# Altium schematic symbol library Phototransistor(Optocoupler).SchLib: 1 symbol
Pins are listed as number, name and electrical type; pins without a type are passive.

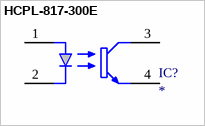
[diagram p0: symbol HCPL-817-300E]

## HCPL-817-300E
designator IC?
OPTOISOLATOR 5KV TRANSISTOR 4SMD; Manufacturer: Broadcom Avago; Manufacturer Part Number: HCPL-817-300E; Number of Channels: 1; Forward Current: 50mA; Forward Voltage: 1.4V; Collector Emitter Voltage (VCEO): 35V; Max Output Voltage: 70V; Max Power Dissipation: 200mW; Rise Time: 18000ns; Reverse Breakdown Voltage: 6V; Current Transfer Ratio: 600%; Collector Emitter Saturation Voltage: 200mV; Input Current: 20mA; Approvals: UL,CSA,VDE; Supplier 1: Digi-Key; RoHS: Yes; Category: Optocouplers; Stock 1: 19011; Pricing 1: 1=0,62000, 10=0,44500, 100=0,29090, 500=0,20908, 1000=0,16362, 2500=0,14998, 5000=0,13635, 10000=0,12726, 25000=0,12272 (USD); Mount: Surface Mount; Case/Package: SMD/SMT; Number of Pins: 4; Contact Plating: Tin,Matte; Min Operating Temperature: -30°C; Max Operating Temperature: 100°C; Packaging: Rail/Tube; Output Current per Channel: 50mA; Isolation Voltage: 5kV; Package Quantity: 100; Max Collector Current: 50mA; Max Input Current: 50mA; Fall Time: 18000ns; Number of Elements: 1; Power Dissipation: 200mW; Number of Circuits: 1; Radiation Hardening: No; REACH SVHC: No SVHC; Lead Free: Lead Free; ComponentLink1URL: https://datasheet.ciiva.com/14169/av02-0265en-14169345.pdf?src-supplier=Distrelec; ComponentLink1Description: https://datasheet.ciiva.com/14169/av02-0265en-14169345.pdf?src-supplier=Distrelec; ComponentLink2URL: https://datasheet.ciiva.com/11771/0900766b80db8749-11771859.pdf?src-supplier=RSComponents; ComponentLink2Description: https://datasheet.ciiva.com/11771/0900766b80db8749-11771859.pdf?src-supplier=RSComponents; ComponentLink3URL: https://datasheet.ciiva.com/15118/getdatasheetpartid-148838-15118837.pdf?src-supplier=Verical; ComponentLink3Description: https://datasheet.ciiva.com/15118/getdatasheetpartid-148838-15118837.pdf?src-supplier=Verical; ComponentLink4URL: https://datasheet.ciiva.com/29301/140230-da-01-en-fototransistor-optokoppler-hcpl-817-300e-29301503.pdf?src-supplier=Conrad; ComponentLink4Description: https://datasheet.ciiva.com/29301/140230-da-01-en-fototransistor-optokoppler-hcpl-817-300e-29301503.pdf?src-supplier=Conrad; ComponentLink5URL: https://datasheet.ciiva.com/4702/v02-0265en-106799-4702250.pdf?src-supplier=Mouser; ComponentLink5Description: https://datasheet.ciiva.com/4702/v02-0265en-106799-4702250.pdf?src-supplier=Mouser; ComponentLink6URL: https://datasheet.ciiva.com/8065/1266126-8065797.pdf?src-supplier=Element14; ComponentLink6Description: https://datasheet.ciiva.com/8065/1266126-8065797.pdf?src-supplier=Element14
footprint OPTOISOLATOR_5KV_TRANSISTOR_4SMD
pins: 1 Anode, 2 Cathode, 3 Collector, 4 Emitter